# Altium schematic symbol library kmilo17pet-TI_MSP430.SchLib: 1463 symbols (part 61 of 130)
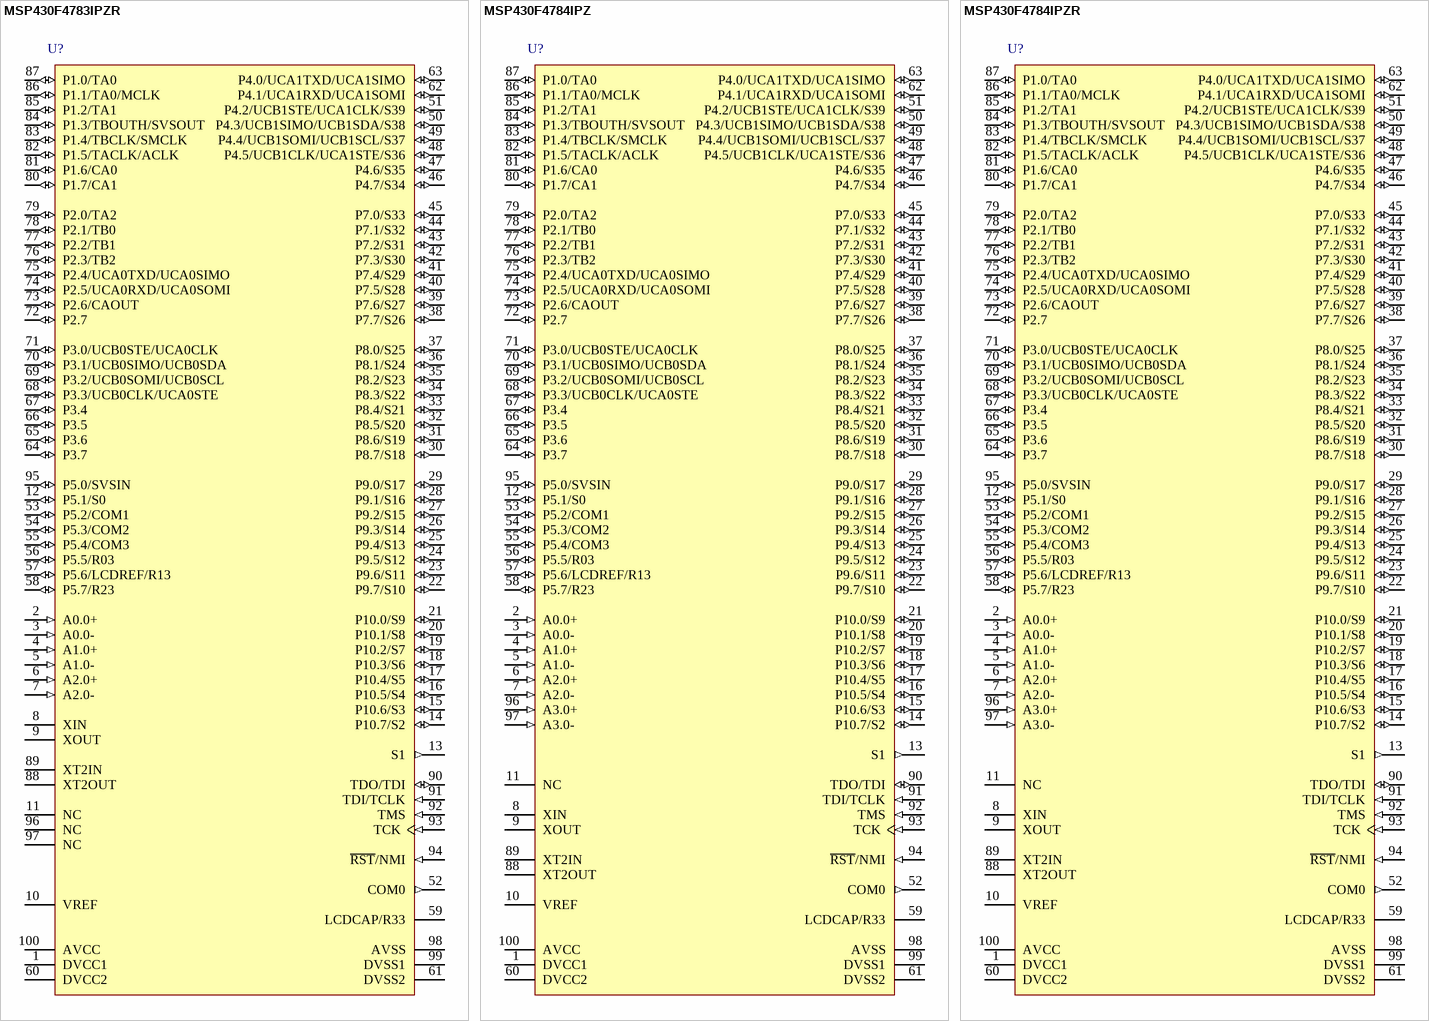
[diagram p266: symbols MSP430F4783IPZR to MSP430F4784IPZR]

## MSP430F4784IPZR
designator U?
16 MHz Mixed Signal Microcontroller with 48 KB Flash, 2048 B SRAM and 72 GPIOs, -40 to 85 degC, 100-pin QFP (PZ), Green (RoHS & no Sb/Br); Manufacturer: Texas Instruments; PartNumber: MSP430F4784IPZR; ADC: 16-bit Sigma Delta; Brown Out Reset: Yes; Flash(KB): 48; Frequency(MHz): 16; GPIO: 72; LCD Segments: 160; Multiplier: 32x32; SRAM(B): 2048; SubFamily: 4 Series with LCD; Timers - 16-bit: 2; DatasheetVersion: SLAS545C; PackageVersion: 4040149/B; PackageReference: PZ100; PackageDescription: 100-Pin Plastic Flat Pack, Body 14 x 14 mm, Pitch 0.5 mm; Supplier 1: Digi-Key; Supplier Part Number 1: 296-33435-5-ND; Supplier 2: Newark; Supplier Part Number 2: 73M3251; Supplier 3: Mouser; Supplier Part Number 3: 595-MSP430F4784IPZ; Comparators: Yes; Eco-Plan: Green (RoHS & no Sb/Br); SVS: Yes; Temp Sensor: Yes; USCI_A (UART/LIN/IrDA/SPI): 2; USCI_B (I2C & SPI): 2; Watchdog: Yes; Mounting Technology: Surface Mount; Code_JEDEC: MS-026; ComponentLink1Description: Manufacturer URL; ComponentLink1URL: http://www.ti.com/; ComponentLink2Description: Datasheet; ComponentLink2URL: http://www.ti.com/general/docs/lit/getliterature.tsp?genericPartNumber=MSP430F4784&fileType=pdf; ComponentLink3Description: Package Specification; ComponentLink3URL: http://www.ti.com/lit/ml/mtqf013a/mtqf013a.pdf
footprint TI-PZ100_N (QFP, 100-Leads, Body 14x14mm, Pitch 0.5mm, IPC Medium Density)
pins: 1 DVCC1 (power) "Digital supply voltage, positive terminal.", 2 A0.0+ (in) "SD16_A positive analog input A0.0", 3 A0.0- (in) "SD16_A negative analog input A0.0", 4 A1.0+ (in) "SD16_A positive analog input A1.0", 5 A1.0- (in) "SD16_A negative analog input A1.0", 6 A2.0+ (in) "SD16_A positive analog input A2.0", 7 A2.0- (in) "SD16_A negative analog input A2.0", 8 XIN "Input port for crystal oscillator XT1. Standard or watch crystals can be connected.", 9 XOUT "Output terminal of crystal oscillator XT1", 10 VREF "Input for an external reference voltage / Internal reference voltage output (can be used as mid-voltage)", 11 NC "Internally not connected. Can be connected to VSS.", 12 P5.1/S0 (io), 13 S1 (out) "LCD segment output 1", 14 P10.7/S2 (io), 15 P10.6/S3 (io), 16 P10.5/S4 (io), 17 P10.4/S5 (io), 18 P10.3/S6 (io), 19 P10.2/S7 (io), 20 P10.1/S8 (io), 21 P10.0/S9 (io), 22 P9.7/S10 (io), 23 P9.6/S11 (io), 24 P9.5/S12 (io), 25 P9.4/S13 (io), 26 P9.3/S14 (io), 27 P9.2/S15 (io), 28 P9.1/S16 (io), 29 P9.0/S17 (io), 30 P8.7/S18 (io), 31 P8.6/S19 (io), 32 P8.5/S20 (io), 33 P8.4/S21 (io), 34 P8.3/S22 (io), 35 P8.2/S23 (io), 36 P8.1/S24 (io), 37 P8.0/S25 (io), 38 P7.7/S26 (io), 39 P7.6/S27 (io), 40 P7.5/S28 (io), 41 P7.4/S29 (io), 42 P7.3/S30 (io), 43 P7.2/S31 (io), 44 P7.1/S32 (io), 45 P7.0/S33 (io), 46 P4.7/S34 (io), 47 P4.6/S35 (io), 48 P4.5/UCB1CLK/UCA1STE/S36 (io), 49 P4.4/UCB1SOMI/UCB1SCL/S37 (io), 50 P4.3/UCB1SIMO/UCB1SDA/S38 (io), 51 P4.2/UCB1STE/UCA1CLK/S39 (io), 52 COM0 (out) "COM0-3 are used for LCD backplanes", 53 P5.2/COM1 (io), 54 P5.3/COM2 (io), 55 P5.4/COM3 (io), 56 P5.5/R03 (io), 57 P5.6/LCDREF/R13 (io), 58 P5.7/R23 (io), 59 LCDCAP/R33, 60 DVCC2 (power) "Digital supply voltage, positive terminal.", 61 DVSS2 (power) "Digital supply voltage, negative terminal.", 62 P4.1/UCA1RXD/UCA1SOMI (io), 63 P4.0/UCA1TXD/UCA1SIMO (io), 64 P3.7 (io) "General-purpose digital I/O", 65 P3.6 (io) "General-purpose digital I/O", 66 P3.5 (io) "General-purpose digital I/O", 67 P3.4 (io) "General-purpose digital I/O", 68 P3.3/UCB0CLK/UCA0STE (io), 69 P3.2/UCB0SOMI/UCB0SCL (io), 70 P3.1/UCB0SIMO/UCB0SDA (io), 71 P3.0/UCB0STE/UCA0CLK (io), 72 P2.7 (io) "General-purpose digital I/O", 73 P2.6/CAOUT (io), 74 P2.5/UCA0RXD/UCA0SOMI (io), 75 P2.4/UCA0TXD/UCA0SIMO (io), 76 P2.3/TB2 (io), 77 P2.2/TB1 (io), 78 P2.1/TB0 (io), 79 P2.0/TA2 (io), 80 P1.7/CA1 (io), 81 P1.6/CA0 (io), 82 P1.5/TACLK/ACLK (io), 83 P1.4/TBCLK/SMCLK (io), 84 P1.3/TBOUTH/SVSOUT (io), 85 P1.2/TA1 (io), 86 P1.1/TA0/MCLK (io), 87 P1.0/TA0 (io), 88 XT2OUT "Output terminal of crystal oscillator XT2", 89 XT2IN "Input port for crystal oscillator XT2. Only standard crystals can be connected.", 90 TDO/TDI (io), 91 TDI/TCLK (in), 92 TMS (in) "Test mode select. TMS is used as an input port for device programming and test.", 93 TCK (in) "Test clock. TCK is the clock input port for device programming and test.", 94 ~{RST}/NMI (in), 95 P5.0/SVSIN (io), 96 A3.0+ (in) "SD16_A positive analog input A3.0", 97 A3.0- (in) "SD16_A negative analog input A3.0", 98 AVSS (power) "Analog supply voltage, negative terminal.", 99 DVSS1 (power) "Digital supply voltage, negative terminal.", 100 AVCC (power) "Analog supply voltage, positive terminal. Must not power up prior to DVCC1/DVCC2."

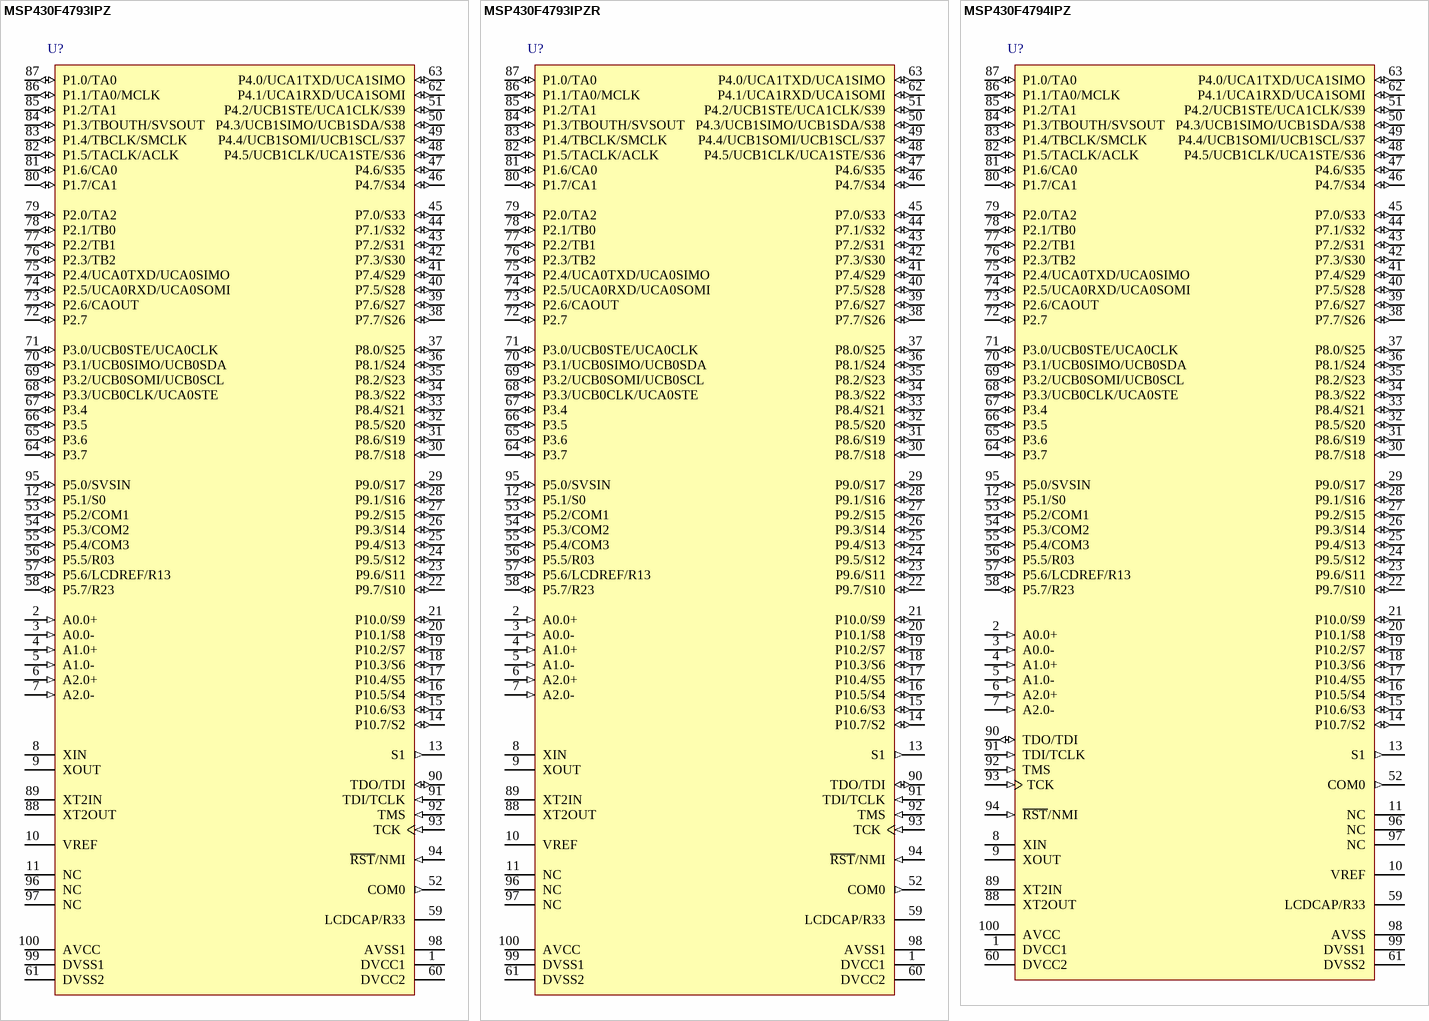
[diagram p88: symbols MSP430F4793IPZ to MSP430F4794IPZ]

## MSP430F4793IPZ
designator U?
16 MHz Mixed Signal Microcontroller with 60 KB Flash, 2560 B SRAM and 72 GPIOs, -40 to 85 degC, 100-pin QFP (PZ), Green (RoHS & no Sb/Br); Manufacturer: Texas Instruments; PartNumber: MSP430F4793IPZ; ADC: 16-bit Sigma Delta; Brown Out Reset: Yes; Flash(KB): 60; Frequency(MHz): 16; GPIO: 72; LCD Segments: 160; Multiplier: 32x32; SRAM(B): 2560; SubFamily: 4 Series with LCD; Timers - 16-bit: 2; DatasheetVersion: SLAS545C; PackageVersion: 4040149/B; PackageReference: PZ100; PackageDescription: 100-Pin Plastic Flat Pack, Body 14 x 14 mm, Pitch 0.5 mm; Supplier 1: Digi-Key; Supplier Part Number 1: 296-25382-2-ND; Supplier 2: Digi-Key; Supplier Part Number 2: 296-25382-1-ND; Supplier 3: Digi-Key; Supplier Part Number 3: 296-25382-6-ND; Supplier 4: Newark; Supplier Part Number 4: 24R9862; Supplier 5: Mouser; Supplier Part Number 5: 595-MSP430F478IPNR; Comparators: Yes; Eco-Plan: Green (RoHS & no Sb/Br); SVS: Yes; Temp Sensor: Yes; USCI_A (UART/LIN/IrDA/SPI): 2; USCI_B (I2C & SPI): 2; Watchdog: Yes; Mounting Technology: Surface Mount; Code_JEDEC: MS-026; ComponentLink1Description: Manufacturer URL; ComponentLink1URL: http://www.ti.com/; ComponentLink2Description: Datasheet; ComponentLink2URL: http://www.ti.com/general/docs/lit/getliterature.tsp?genericPartNumber=MSP430F4793&fileType=pdf; ComponentLink3Description: Package Specification; ComponentLink3URL: http://www.ti.com/lit/ml/mtqf013a/mtqf013a.pdf
footprint TI-PZ100_N (QFP, 100-Leads, Body 14x14mm, Pitch 0.5mm, IPC Medium Density)
pins: 1 DVCC1 (power) "Digital supply voltage, positive terminal.", 2 A0.0+ (in) "SD16_A positive analog input A0.0", 3 A0.0- (in) "SD16_A negative analog input A0.0", 4 A1.0+ (in) "SD16_A positive analog input A1.0", 5 A1.0- (in) "SD16_A negative analog input A1.0", 6 A2.0+ (in) "SD16_A positive analog input A2.0", 7 A2.0- (in) "SD16_A negative analog input A2.0", 8 XIN "Input port for crystal oscillator XT1. Standard or watch crystals can be connected.", 9 XOUT "Output terminal of crystal oscillator XT1", 10 VREF "Input for an external reference voltage /Internal reference voltage output (can be used as mid-voltage)", 11 NC "Internally not connected. Can be connected to VSS.", 12 P5.1/S0 (io), 13 S1 (out) "LCD segment output 1", 14 P10.7/S2 (io), 15 P10.6/S3 (io), 16 P10.5/S4 (io), 17 P10.4/S5 (io), 18 P10.3/S6 (io), 19 P10.2/S7 (io), 20 P10.1/S8 (io), 21 P10.0/S9 (io), 22 P9.7/S10 (io), 23 P9.6/S11 (io), 24 P9.5/S12 (io), 25 P9.4/S13 (io), 26 P9.3/S14 (io), 27 P9.2/S15 (io), 28 P9.1/S16 (io), 29 P9.0/S17 (io), 30 P8.7/S18 (io), 31 P8.6/S19 (io), 32 P8.5/S20 (io), 33 P8.4/S21 (io), 34 P8.3/S22 (io), 35 P8.2/S23 (io), 36 P8.1/S24 (io), 37 P8.0/S25 (io), 38 P7.7/S26 (io), 39 P7.6/S27 (io), 40 P7.5/S28 (io), 41 P7.4/S29 (io), 42 P7.3/S30 (io), 43 P7.2/S31 (io), 44 P7.1/S32 (io), 45 P7.0/S33 (io), 46 P4.7/S34 (io), 47 P4.6/S35 (io), 48 P4.5/UCB1CLK/UCA1STE/S36 (io), 49 P4.4/UCB1SOMI/UCB1SCL/S37 (io), 50 P4.3/UCB1SIMO/UCB1SDA/S38 (io), 51 P4.2/UCB1STE/UCA1CLK/S39 (io), 52 COM0 (out) "COM0-3 are used for LCD backplanes.", 53 P5.2/COM1 (io), 54 P5.3/COM2 (io), 55 P5.4/COM3 (io), 56 P5.5/R03 (io), 57 P5.6/LCDREF/R13 (io), 58 P5.7/R23 (io), 59 LCDCAP/R33, 60 DVCC2 (power) "Digital supply voltage, positive terminal.", 61 DVSS2 (power) "Digital supply voltage, negative terminal.", 62 P4.1/UCA1RXD/UCA1SOMI (io), 63 P4.0/UCA1TXD/UCA1SIMO (io), 64 P3.7 (io) "General-purpose digital I/O", 65 P3.6 (io) "General-purpose digital I/O", 66 P3.5 (io) "General-purpose digital I/O", 67 P3.4 (io) "General-purpose digital I/O", 68 P3.3/UCB0CLK/UCA0STE (io), 69 P3.2/UCB0SOMI/UCB0SCL (io), 70 P3.1/UCB0SIMO/UCB0SDA (io), 71 P3.0/UCB0STE/UCA0CLK (io), 72 P2.7 (io) "General-purpose digital I/O", 73 P2.6/CAOUT (io), 74 P2.5/UCA0RXD/UCA0SOMI (io), 75 P2.4/UCA0TXD/UCA0SIMO (io), 76 P2.3/TB2 (io), 77 P2.2/TB1 (io), 78 P2.1/TB0 (io), 79 P2.0/TA2 (io), 80 P1.7/CA1 (io), 81 P1.6/CA0 (io), 82 P1.5/TACLK/ACLK (io), 83 P1.4/TBCLK/SMCLK (io), 84 P1.3/TBOUTH/SVSOUT (io), 85 P1.2/TA1 (io), 86 P1.1/TA0/MCLK (io), 87 P1.0/TA0 (io), 88 XT2OUT "Output terminal of crystal oscillator XT2", 89 XT2IN "Input port for crystal oscillator XT2. Only standard crystals can be connected.", 90 TDO/TDI (io), 91 TDI/TCLK (in), 92 TMS (in) "Input port for crystal oscillator XT2. Only standard crystals can be connected.", 93 TCK (in) "Test clock. TCK is the clock input port for device programming and test.", 94 ~{RST}/NMI (in), 95 P5.0/SVSIN (io), 96 NC "Internally not connected. Can be connected to VSS.", 97 NC "Internally not connected. Can be connected to VSS.", 98 AVSS1 (power) "Analog supply voltage, negative terminal.", 99 DVSS1 (power) "Digital supply voltage, negative terminal.", 100 AVCC (power) "Analog supply voltage, positive terminal. Must not power up prior to DVCC1/DVCC2."

## MSP430F4793IPZR
designator U?
16 MHz Mixed Signal Microcontroller with 60 KB Flash, 2560 B SRAM and 72 GPIOs, -40 to 85 degC, 100-pin QFP (PZ), Green (RoHS & no Sb/Br); Manufacturer: Texas Instruments; PartNumber: MSP430F4793IPZR; ADC: 16-bit Sigma Delta; Brown Out Reset: Yes; Flash(KB): 60; Frequency(MHz): 16; GPIO: 72; LCD Segments: 160; Multiplier: 32x32; SRAM(B): 2560; SubFamily: 4 Series with LCD; Timers - 16-bit: 2; DatasheetVersion: SLAS545C; PackageVersion: 4040149/B; PackageReference: PZ100; PackageDescription: 100-Pin Plastic Flat Pack, Body 14 x 14 mm, Pitch 0.5 mm; Supplier 1: Digi-Key; Supplier Part Number 1: 296-33436-5-ND; Supplier 2: Farnell; Supplier Part Number 2: 1903450; Supplier 3: Newark; Supplier Part Number 3: 73M3253; Supplier 4: Mouser; Supplier Part Number 4: 595-MSP430F4793IPZ; Comparators: Yes; Eco-Plan: Green (RoHS & no Sb/Br); SVS: Yes; Temp Sensor: Yes; USCI_A (UART/LIN/IrDA/SPI): 2; USCI_B (I2C & SPI): 2; Watchdog: Yes; Mounting Technology: Surface Mount; Code_JEDEC: MS-026; ComponentLink1Description: Manufacturer URL; ComponentLink1URL: http://www.ti.com/; ComponentLink2Description: Datasheet; ComponentLink2URL: http://www.ti.com/general/docs/lit/getliterature.tsp?genericPartNumber=MSP430F4793&fileType=pdf; ComponentLink3Description: Package Specification; ComponentLink3URL: http://www.ti.com/lit/ml/mtqf013a/mtqf013a.pdf
footprint TI-PZ100_N (QFP, 100-Leads, Body 14x14mm, Pitch 0.5mm, IPC Medium Density)
pins: 1 DVCC1 (power) "Digital supply voltage, positive terminal.", 2 A0.0+ (in) "SD16_A positive analog input A0.0", 3 A0.0- (in) "SD16_A negative analog input A0.0", 4 A1.0+ (in) "SD16_A positive analog input A1.0", 5 A1.0- (in) "SD16_A negative analog input A1.0", 6 A2.0+ (in) "SD16_A positive analog input A2.0", 7 A2.0- (in) "SD16_A negative analog input A2.0", 8 XIN "Input port for crystal oscillator XT1. Standard or watch crystals can be connected.", 9 XOUT "Output terminal of crystal oscillator XT1", 10 VREF "Input for an external reference voltage /Internal reference voltage output (can be used as mid-voltage)", 11 NC "Internally not connected. Can be connected to VSS.", 12 P5.1/S0 (io), 13 S1 (out) "LCD segment output 1", 14 P10.7/S2 (io), 15 P10.6/S3 (io), 16 P10.5/S4 (io), 17 P10.4/S5 (io), 18 P10.3/S6 (io), 19 P10.2/S7 (io), 20 P10.1/S8 (io), 21 P10.0/S9 (io), 22 P9.7/S10 (io), 23 P9.6/S11 (io), 24 P9.5/S12 (io), 25 P9.4/S13 (io), 26 P9.3/S14 (io), 27 P9.2/S15 (io), 28 P9.1/S16 (io), 29 P9.0/S17 (io), 30 P8.7/S18 (io), 31 P8.6/S19 (io), 32 P8.5/S20 (io), 33 P8.4/S21 (io), 34 P8.3/S22 (io), 35 P8.2/S23 (io), 36 P8.1/S24 (io), 37 P8.0/S25 (io), 38 P7.7/S26 (io), 39 P7.6/S27 (io), 40 P7.5/S28 (io), 41 P7.4/S29 (io), 42 P7.3/S30 (io), 43 P7.2/S31 (io), 44 P7.1/S32 (io), 45 P7.0/S33 (io), 46 P4.7/S34 (io), 47 P4.6/S35 (io), 48 P4.5/UCB1CLK/UCA1STE/S36 (io), 49 P4.4/UCB1SOMI/UCB1SCL/S37 (io), 50 P4.3/UCB1SIMO/UCB1SDA/S38 (io), 51 P4.2/UCB1STE/UCA1CLK/S39 (io), 52 COM0 (out) "COM0-3 are used for LCD backplanes.", 53 P5.2/COM1 (io), 54 P5.3/COM2 (io), 55 P5.4/COM3 (io), 56 P5.5/R03 (io), 57 P5.6/LCDREF/R13 (io), 58 P5.7/R23 (io), 59 LCDCAP/R33, 60 DVCC2 (power) "Digital supply voltage, positive terminal.", 61 DVSS2 (power) "Digital supply voltage, negative terminal.", 62 P4.1/UCA1RXD/UCA1SOMI (io), 63 P4.0/UCA1TXD/UCA1SIMO (io), 64 P3.7 (io) "General-purpose digital I/O", 65 P3.6 (io) "General-purpose digital I/O", 66 P3.5 (io) "General-purpose digital I/O", 67 P3.4 (io) "General-purpose digital I/O", 68 P3.3/UCB0CLK/UCA0STE (io), 69 P3.2/UCB0SOMI/UCB0SCL (io), 70 P3.1/UCB0SIMO/UCB0SDA (io), 71 P3.0/UCB0STE/UCA0CLK (io), 72 P2.7 (io) "General-purpose digital I/O", 73 P2.6/CAOUT (io), 74 P2.5/UCA0RXD/UCA0SOMI (io), 75 P2.4/UCA0TXD/UCA0SIMO (io), 76 P2.3/TB2 (io), 77 P2.2/TB1 (io), 78 P2.1/TB0 (io), 79 P2.0/TA2 (io), 80 P1.7/CA1 (io), 81 P1.6/CA0 (io), 82 P1.5/TACLK/ACLK (io), 83 P1.4/TBCLK/SMCLK (io), 84 P1.3/TBOUTH/SVSOUT (io), 85 P1.2/TA1 (io), 86 P1.1/TA0/MCLK (io), 87 P1.0/TA0 (io), 88 XT2OUT "Output terminal of crystal oscillator XT2", 89 XT2IN "Input port for crystal oscillator XT2. Only standard crystals can be connected.", 90 TDO/TDI (io), 91 TDI/TCLK (in), 92 TMS (in) "Input port for crystal oscillator XT2. Only standard crystals can be connected.", 93 TCK (in) "Test clock. TCK is the clock input port for device programming and test.", 94 ~{RST}/NMI (in), 95 P5.0/SVSIN (io), 96 NC "Internally not connected. Can be connected to VSS.", 97 NC "Internally not connected. Can be connected to VSS.", 98 AVSS1 (power) "Analog supply voltage, negative terminal.", 99 DVSS1 (power) "Digital supply voltage, negative terminal.", 100 AVCC (power) "Analog supply voltage, positive terminal. Must not power up prior to DVCC1/DVCC2."

## MSP430F4794IPZ
designator U?
16 MHz Mixed Signal Microcontroller with 60 KB Flash, 2560 B SRAM and 72 GPIOs, -40 to 85 degC, 100-pin QFP (PZ), Green (RoHS & no Sb/Br); Manufacturer: Texas Instruments; PartNumber: MSP430F4794IPZ; ADC: 16-bit Sigma Delta; Brown Out Reset: Yes; Flash(KB): 60; Frequency(MHz): 16; GPIO: 72; LCD Segments: 160; Multiplier: 32x32; SRAM(B): 2560; SubFamily: 4 Series with LCD; Timers - 16-bit: 2; DatasheetVersion: SLAS545C; PackageVersion: 4040149/B; PackageReference: PZ100; PackageDescription: 100-Pin Plastic Flat Pack, Body 14 x 14 mm, Pitch 0.5 mm; Supplier 1: Digi-Key; Supplier Part Number 1: 296-24721-2-ND; Supplier 2: Digi-Key; Supplier Part Number 2: 296-24721-1-ND; Supplier 3: Digi-Key; Supplier Part Number 3: 296-24721-6-ND; Supplier 4: Mouser; Supplier Part Number 4: 595-MSP430F4793IPZR; Comparators: Yes; Eco-Plan: Green (RoHS & no Sb/Br); SVS: Yes; Temp Sensor: Yes; USCI_A (UART/LIN/IrDA/SPI): 2; USCI_B (I2C & SPI): 2; Watchdog: Yes; Mounting Technology: Surface Mount; Code_JEDEC: MS-026; ComponentLink1Description: Manufacturer URL; ComponentLink1URL: http://www.ti.com/; ComponentLink2Description: Datasheet; ComponentLink2URL: http://www.ti.com/general/docs/lit/getliterature.tsp?genericPartNumber=MSP430F4794&fileType=pdf; ComponentLink3Description: Package Specification; ComponentLink3URL: http://www.ti.com/lit/ml/mtqf013a/mtqf013a.pdf
footprint TI-PZ100_N (QFP, 100-Leads, Body 14x14mm, Pitch 0.5mm, IPC Medium Density)
pins: 1 DVCC1 (power) "Digital supply voltage, positive terminal.", 2 A0.0+ (in) "SD16_A positive analog input A0.0", 3 A0.0- (in) "SD16_A negative analog input A0.0", 4 A1.0+ (in) "SD16_A positive analog input A1.0", 5 A1.0- (in) "SD16_A negative analog input A1.0", 6 A2.0+ (in) "SD16_A positive analog input A2.0", 7 A2.0- (in) "SD16_A negative analog input A2.0", 8 XIN "Input port for crystal oscillator XT1. Standard or watch crystals can be connected.", 9 XOUT "Output terminal of crystal oscillator XT1", 10 VREF "Input for an external reference voltage /Internal reference voltage output (can be used as mid-voltage)", 11 NC "Internally not connected. Can be connected to VSS.", 12 P5.1/S0 (io), 13 S1 (out) "LCD segment output 1", 14 P10.7/S2 (io), 15 P10.6/S3 (io), 16 P10.5/S4 (io), 17 P10.4/S5 (io), 18 P10.3/S6 (io), 19 P10.2/S7 (io), 20 P10.1/S8 (io), 21 P10.0/S9 (io), 22 P9.7/S10 (io), 23 P9.6/S11 (io), 24 P9.5/S12 (io), 25 P9.4/S13 (io), 26 P9.3/S14 (io), 27 P9.2/S15 (io), 28 P9.1/S16 (io), 29 P9.0/S17 (io), 30 P8.7/S18 (io), 31 P8.6/S19 (io), 32 P8.5/S20 (io), 33 P8.4/S21 (io), 34 P8.3/S22 (io), 35 P8.2/S23 (io), 36 P8.1/S24 (io), 37 P8.0/S25 (io), 38 P7.7/S26 (io), 39 P7.6/S27 (io), 40 P7.5/S28 (io), 41 P7.4/S29 (io), 42 P7.3/S30 (io), 43 P7.2/S31 (io), 44 P7.1/S32 (io), 45 P7.0/S33 (io), 46 P4.7/S34 (io), 47 P4.6/S35 (io), 48 P4.5/UCB1CLK/UCA1STE/S36 (io), 49 P4.4/UCB1SOMI/UCB1SCL/S37 (io), 50 P4.3/UCB1SIMO/UCB1SDA/S38 (io), 51 P4.2/UCB1STE/UCA1CLK/S39 (io), 52 COM0 (out) "COM0-3 are used for LCD backplanes.", 53 P5.2/COM1 (io), 54 P5.3/COM2 (io), 55 P5.4/COM3 (io), 56 P5.5/R03 (io), 57 P5.6/LCDREF/R13 (io), 58 P5.7/R23 (io), 59 LCDCAP/R33, 60 DVCC2 (power) "Digital supply voltage, positive terminal.", 61 DVSS2 (power) "Digital supply voltage, negative terminal.", 62 P4.1/UCA1RXD/UCA1SOMI (io), 63 P4.0/UCA1TXD/UCA1SIMO (io), 64 P3.7 (io) "General-purpose digital I/O", 65 P3.6 (io) "General-purpose digital I/O", 66 P3.5 (io) "General-purpose digital I/O", 67 P3.4 (io) "General-purpose digital I/O", 68 P3.3/UCB0CLK/UCA0STE (io), 69 P3.2/UCB0SOMI/UCB0SCL (io), 70 P3.1/UCB0SIMO/UCB0SDA (io), 71 P3.0/UCB0STE/UCA0CLK (io), 72 P2.7 (io) "General-purpose digital I/O", 73 P2.6/CAOUT (io), 74 P2.5/UCA0RXD/UCA0SOMI (io), 75 P2.4/UCA0TXD/UCA0SIMO (io), 76 P2.3/TB2 (io), 77 P2.2/TB1 (io), 78 P2.1/TB0 (io), 79 P2.0/TA2 (io), 80 P1.7/CA1 (io), 81 P1.6/CA0 (io), 82 P1.5/TACLK/ACLK (io), 83 P1.4/TBCLK/SMCLK (io), 84 P1.3/TBOUTH/SVSOUT (io), 85 P1.2/TA1 (io), 86 P1.1/TA0/MCLK (io), 87 P1.0/TA0 (io), 88 XT2OUT "Output terminal of crystal oscillator XT2", 89 XT2IN "Input port for crystal oscillator XT2. Only standard crystals can be connected.", 90 TDO/TDI (io), 91 TDI/TCLK (in), 92 TMS (in) "Input port for crystal oscillator XT2. Only standard crystals can be connected.", 93 TCK (in) "Test clock. TCK is the clock input port for device programming and test.", 94 ~{RST}/NMI (in), 95 P5.0/SVSIN (io), 96 NC "Internally not connected. Can be connected to VSS.", 97 NC "Internally not connected. Can be connected to VSS.", 98 AVSS (power) "Analog supply voltage, negative terminal.", 99 DVSS1 (power) "Digital supply voltage, negative terminal.", 100 AVCC (power) "Analog supply voltage, positive terminal. Must not power up prior to DVCC1/DVCC2."

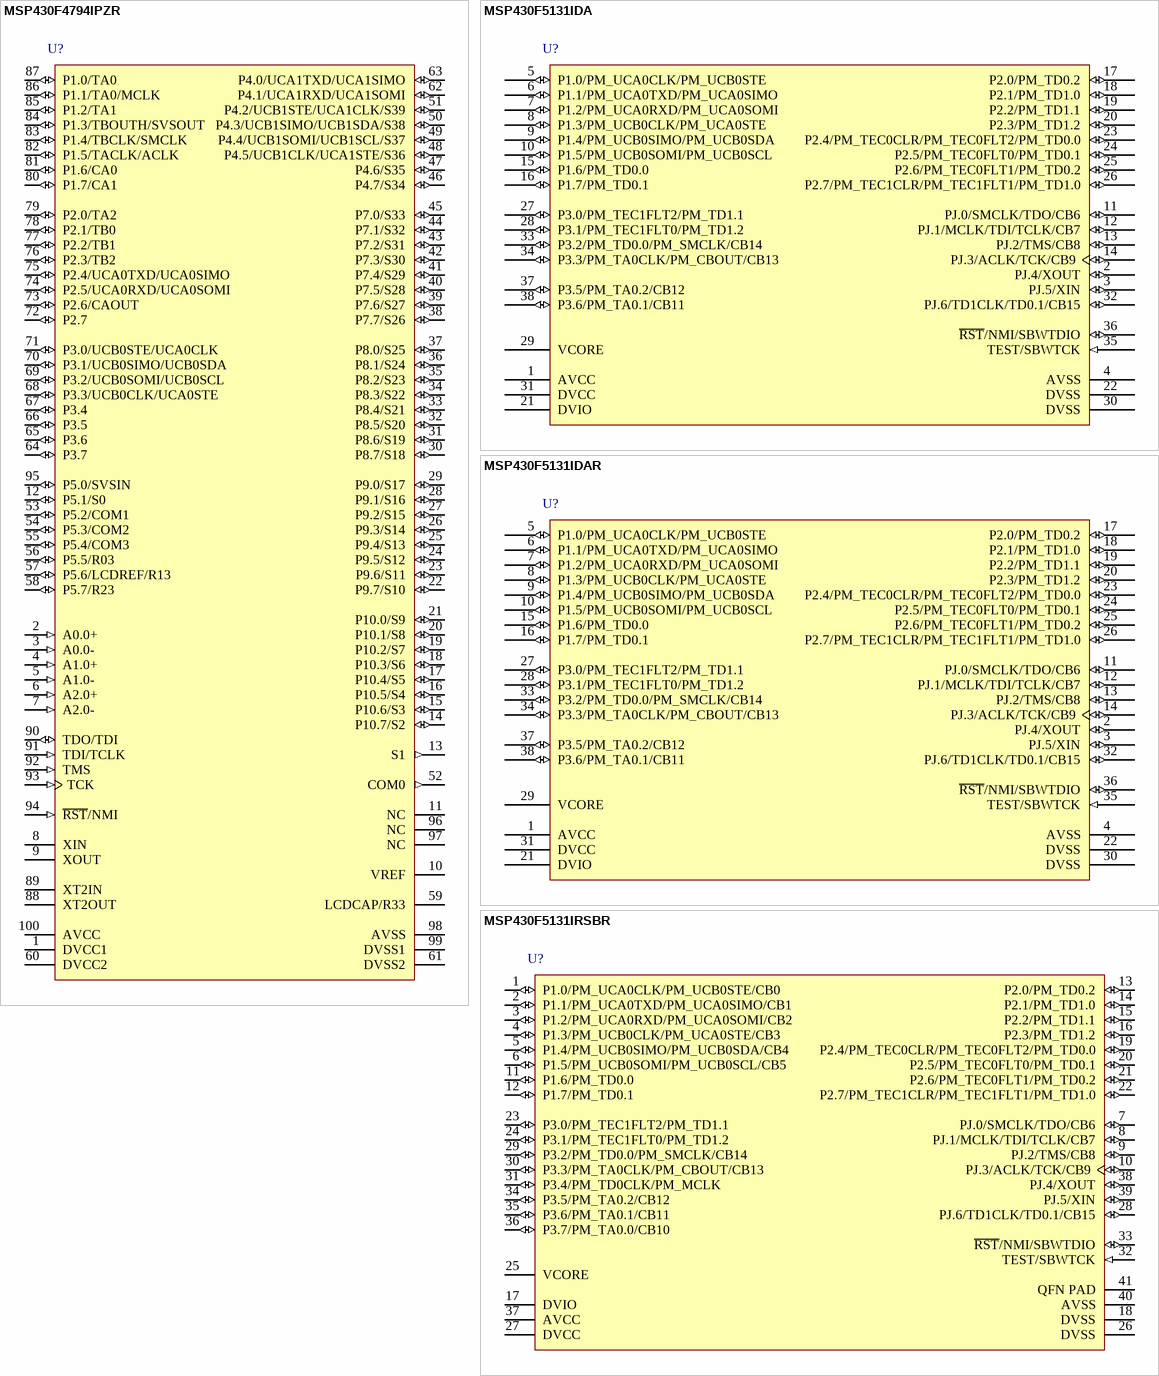
[diagram p89: symbols MSP430F4794IPZR to MSP430F5131IRSBR]

## MSP430F4794IPZR
designator U?
16 MHz Mixed Signal Microcontroller with 60 KB Flash, 2560 B SRAM and 72 GPIOs, -40 to 85 degC, 100-pin QFP (PZ), Green (RoHS & no Sb/Br); Manufacturer: Texas Instruments; PartNumber: MSP430F4794IPZR; ADC: 16-bit Sigma Delta; Brown Out Reset: Yes; Flash(KB): 60; Frequency(MHz): 16; GPIO: 72; LCD Segments: 160; Multiplier: 32x32; SRAM(B): 2560; SubFamily: 4 Series with LCD; Timers - 16-bit: 2; DatasheetVersion: SLAS545C; PackageVersion: 4040149/B; PackageReference: PZ100; PackageDescription: 100-Pin Plastic Flat Pack, Body 14 x 14 mm, Pitch 0.5 mm; Supplier 1: Digi-Key; Supplier Part Number 1: 296-33437-5-ND; Supplier 2: Newark; Supplier Part Number 2: 73M3255; Supplier 3: Mouser; Supplier Part Number 3: 595-MSP430F4794IPZ; Comparators: Yes; Eco-Plan: Green (RoHS & no Sb/Br); SVS: Yes; Temp Sensor: Yes; USCI_A (UART/LIN/IrDA/SPI): 2; USCI_B (I2C & SPI): 2; Watchdog: Yes; Mounting Technology: Surface Mount; Code_JEDEC: MS-026; ComponentLink1Description: Manufacturer URL; ComponentLink1URL: http://www.ti.com/; ComponentLink2Description: Datasheet; ComponentLink2URL: http://www.ti.com/general/docs/lit/getliterature.tsp?genericPartNumber=MSP430F4794&fileType=pdf; ComponentLink3Description: Package Specification; ComponentLink3URL: http://www.ti.com/lit/ml/mtqf013a/mtqf013a.pdf
footprint TI-PZ100_N (QFP, 100-Leads, Body 14x14mm, Pitch 0.5mm, IPC Medium Density)
pins: 1 DVCC1 (power) "Digital supply voltage, positive terminal.", 2 A0.0+ (in) "SD16_A positive analog input A0.0", 3 A0.0- (in) "SD16_A negative analog input A0.0", 4 A1.0+ (in) "SD16_A positive analog input A1.0", 5 A1.0- (in) "SD16_A negative analog input A1.0", 6 A2.0+ (in) "SD16_A positive analog input A2.0", 7 A2.0- (in) "SD16_A negative analog input A2.0", 8 XIN "Input port for crystal oscillator XT1. Standard or watch crystals can be connected.", 9 XOUT "Output terminal of crystal oscillator XT1", 10 VREF "Input for an external reference voltage /Internal reference voltage output (can be used as mid-voltage)", 11 NC "Internally not connected. Can be connected to VSS.", 12 P5.1/S0 (io), 13 S1 (out) "LCD segment output 1", 14 P10.7/S2 (io), 15 P10.6/S3 (io), 16 P10.5/S4 (io), 17 P10.4/S5 (io), 18 P10.3/S6 (io), 19 P10.2/S7 (io), 20 P10.1/S8 (io), 21 P10.0/S9 (io), 22 P9.7/S10 (io), 23 P9.6/S11 (io), 24 P9.5/S12 (io), 25 P9.4/S13 (io), 26 P9.3/S14 (io), 27 P9.2/S15 (io), 28 P9.1/S16 (io), 29 P9.0/S17 (io), 30 P8.7/S18 (io), 31 P8.6/S19 (io), 32 P8.5/S20 (io), 33 P8.4/S21 (io), 34 P8.3/S22 (io), 35 P8.2/S23 (io), 36 P8.1/S24 (io), 37 P8.0/S25 (io), 38 P7.7/S26 (io), 39 P7.6/S27 (io), 40 P7.5/S28 (io), 41 P7.4/S29 (io), 42 P7.3/S30 (io), 43 P7.2/S31 (io), 44 P7.1/S32 (io), 45 P7.0/S33 (io), 46 P4.7/S34 (io), 47 P4.6/S35 (io), 48 P4.5/UCB1CLK/UCA1STE/S36 (io), 49 P4.4/UCB1SOMI/UCB1SCL/S37 (io), 50 P4.3/UCB1SIMO/UCB1SDA/S38 (io), 51 P4.2/UCB1STE/UCA1CLK/S39 (io), 52 COM0 (out) "COM0-3 are used for LCD backplanes.", 53 P5.2/COM1 (io), 54 P5.3/COM2 (io), 55 P5.4/COM3 (io), 56 P5.5/R03 (io), 57 P5.6/LCDREF/R13 (io), 58 P5.7/R23 (io), 59 LCDCAP/R33, 60 DVCC2 (power) "Digital supply voltage, positive terminal.", 61 DVSS2 (power) "Digital supply voltage, negative terminal.", 62 P4.1/UCA1RXD/UCA1SOMI (io), 63 P4.0/UCA1TXD/UCA1SIMO (io), 64 P3.7 (io) "General-purpose digital I/O", 65 P3.6 (io) "General-purpose digital I/O", 66 P3.5 (io) "General-purpose digital I/O", 67 P3.4 (io) "General-purpose digital I/O", 68 P3.3/UCB0CLK/UCA0STE (io), 69 P3.2/UCB0SOMI/UCB0SCL (io), 70 P3.1/UCB0SIMO/UCB0SDA (io), 71 P3.0/UCB0STE/UCA0CLK (io), 72 P2.7 (io) "General-purpose digital I/O", 73 P2.6/CAOUT (io), 74 P2.5/UCA0RXD/UCA0SOMI (io), 75 P2.4/UCA0TXD/UCA0SIMO (io), 76 P2.3/TB2 (io), 77 P2.2/TB1 (io), 78 P2.1/TB0 (io), 79 P2.0/TA2 (io), 80 P1.7/CA1 (io), 81 P1.6/CA0 (io), 82 P1.5/TACLK/ACLK (io), 83 P1.4/TBCLK/SMCLK (io), 84 P1.3/TBOUTH/SVSOUT (io), 85 P1.2/TA1 (io), 86 P1.1/TA0/MCLK (io), 87 P1.0/TA0 (io), 88 XT2OUT "Output terminal of crystal oscillator XT2", 89 XT2IN "Input port for crystal oscillator XT2. Only standard crystals can be connected.", 90 TDO/TDI (io), 91 TDI/TCLK (in), 92 TMS (in) "Input port for crystal oscillator XT2. Only standard crystals can be connected.", 93 TCK (in) "Test clock. TCK is the clock input port for device programming and test.", 94 ~{RST}/NMI (in), 95 P5.0/SVSIN (io), 96 NC "Internally not connected. Can be connected to VSS.", 97 NC "Internally not connected. Can be connected to VSS.", 98 AVSS (power) "Analog supply voltage, negative terminal.", 99 DVSS1 (power) "Digital supply voltage, negative terminal.", 100 AVCC (power) "Analog supply voltage, positive terminal. Must not power up prior to DVCC1/DVCC2."

## MSP430F5131IDA
designator U?
25 MHz Mixed Signal Microcontroller with 8 KB Flash, 1024 B SRAM and 29 GPIOs, -40 to 85 degC, 38-pin SOP (DA), Green (RoHS & no Sb/Br); Manufacturer: Texas Instruments; PartNumber: MSP430F5131IDA; Comparators: Yes; DMA: 3; Flash(KB): 8; Frequency(MHz): 25; GPIO: 29; Multiplier: 32x32; SRAM(B): 1024; SubFamily: 5 Series; USCI_A (UART/LIN/IrDA/SPI): 1; DatasheetVersion: SLAS619G; PackageVersion: 4040066/F; PackageReference: DA38; PackageDescription: 38-Pin Plastic Small-Outline Package, Body 6.10 x 12.50 mm, Pitch 0.65 mm; Supplier 1: Digi-Key; Supplier Part Number 1: 296-25384-2-ND; Supplier 2: Digi-Key; Supplier Part Number 2: 296-25384-1-ND; Supplier 3: Digi-Key; Supplier Part Number 3: 296-25384-6-ND; Supplier 4: Newark; Supplier Part Number 4: 24R9866; Supplier 5: Mouser; Supplier Part Number 5: 595-MSP430F479IPNR; Eco-Plan: Green (RoHS & no Sb/Br); SVS: Yes; Timers - 16-bit: 3; USCI_B (I2C & SPI): 1; Watchdog: Yes; Mounting Technology: Surface Mount; Code_JEDEC: MO-153; ComponentLink1Description: Manufacturer URL; ComponentLink1URL: http://www.ti.com/; ComponentLink2Description: Datasheet; ComponentLink2URL: http://www.ti.com/general/docs/lit/getliterature.tsp?genericPartNumber=MSP430F5131&fileType=pdf; ComponentLink3Description: Package Specification; ComponentLink3URL: http://www.ti.com/lit/ml/mtss002e/mtss002e.pdf
footprint TI-DA38_N (SOP, 38-Leads, Body 12.5x6.1mm, Pitch 0.65mm, IPC Medium Density)
pins: 1 AVCC (power) "Analog power supply", 2 PJ.4/XOUT (io), 3 PJ.5/XIN (io), 4 AVSS (power) "Analog ground supply", 5 P1.0/PM_UCA0CLK/PM_UCB0STE (io), 6 P1.1/PM_UCA0TXD/PM_UCA0SIMO (io), 7 P1.2/PM_UCA0RXD/PM_UCA0SOMI (io), 8 P1.3/PM_UCB0CLK/PM_UCA0STE (io), 9 P1.4/PM_UCB0SIMO/PM_UCB0SDA (io), 10 P1.5/PM_UCB0SOMI/PM_UCB0SCL (io), 11 PJ.0/SMCLK/TDO/CB6 (io), 12 PJ.1/MCLK/TDI/TCLK/CB7 (io), 13 PJ.2/TMS/CB8 (io), 14 PJ.3/ACLK/TCK/CB9 (io), 15 P1.6/PM_TD0.0 (io), 16 P1.7/PM_TD0.1 (io), 17 P2.0/PM_TD0.2 (io), 18 P2.1/PM_TD1.0 (io), 19 P2.2/PM_TD1.1 (io), 20 P2.3/PM_TD1.2 (io), 21 DVIO (power) "5V tolerant digital I/O power supply", 22 DVSS (power) "Digital ground supply", 23 P2.4/PM_TEC0CLR/PM_TEC0FLT2/PM_TD0.0 (io), 24 P2.5/PM_TEC0FLT0/PM_TD0.1 (io), 25 P2.6/PM_TEC0FLT1/PM_TD0.2 (io), 26 P2.7/PM_TEC1CLR/PM_TEC1FLT1/PM_TD1.0 (io), 27 P3.0/PM_TEC1FLT2/PM_TD1.1 (io), 28 P3.1/PM_TEC1FLT0/PM_TD1.2 (io), 29 VCORE "Regulated core power supply", 30 DVSS "Digital ground supply", 31 DVCC (power) "Digital power supply", 32 PJ.6/TD1CLK/TD0.1/CB15 (io), 33 P3.2/PM_TD0.0/PM_SMCLK/CB14 (io), 34 P3.3/PM_TA0CLK/PM_CBOUT/CB13 (io), 35 TEST/SBWTCK (in), 36 ~{RST}/NMI/SBWTDIO (io), 37 P3.5/PM_TA0.2/CB12 (io), 38 P3.6/PM_TA0.1/CB11 (io)

## MSP430F5131IDAR
designator U?
25 MHz Mixed Signal Microcontroller with 8 KB Flash, 1024 B SRAM and 29 GPIOs, -40°C to 85°C, 38-pin SOP (DA), Green (RoHS & no Sb/Br); Manufacturer: Texas Instruments; PartNumber: MSP430F5131IDAR; Comparators: Yes; DMA: 3; Flash(KB): 8; Frequency(MHz): 25; GPIO: 29; Multiplier: 32x32; SRAM(B): 1024; SubFamily: 5 Series; USCI_A (UART/LIN/IrDA/SPI): 1; DatasheetVersion: SLAS619G; PackageVersion: 4040066/F; PackageReference: DA38; PackageDescription: 38-Pin Plastic Small-Outline Package, Body 6.10 x 12.50 mm, Pitch 0.65 mm; Supplier 1: Digi-Key; Supplier Part Number 1: MSP430F5131IDA-ND; Supplier 2: Newark; Supplier Part Number 2: 61T5904; Supplier 3: Mouser; Supplier Part Number 3: 595-MSP430F5131IDA; Eco-Plan: Green (RoHS & no Sb/Br); SVS: Yes; Timers - 16-bit: 3; USCI_B (I2C & SPI): 1; Watchdog: Yes; Mounting Technology: Surface Mount; Code_JEDEC: MO-153; ComponentLink1Description: Manufacturer URL; ComponentLink1URL: http://www.ti.com/; ComponentLink2Description: Datasheet; ComponentLink2URL: http://www.ti.com/general/docs/lit/getliterature.tsp?genericPartNumber=MSP430F5131&fileType=pdf; ComponentLink3Description: Package Specification; ComponentLink3URL: http://www.ti.com/lit/ml/mtss002e/mtss002e.pdf
footprint TI-DA38_N (SOP, 38-Leads, Body 12.5x6.1mm, Pitch 0.65mm, IPC Medium Density)
pins: 1 AVCC (power) "Analog power supply", 2 PJ.4/XOUT (io), 3 PJ.5/XIN (io), 4 AVSS (power) "Analog ground supply", 5 P1.0/PM_UCA0CLK/PM_UCB0STE (io), 6 P1.1/PM_UCA0TXD/PM_UCA0SIMO (io), 7 P1.2/PM_UCA0RXD/PM_UCA0SOMI (io), 8 P1.3/PM_UCB0CLK/PM_UCA0STE (io), 9 P1.4/PM_UCB0SIMO/PM_UCB0SDA (io), 10 P1.5/PM_UCB0SOMI/PM_UCB0SCL (io), 11 PJ.0/SMCLK/TDO/CB6 (io), 12 PJ.1/MCLK/TDI/TCLK/CB7 (io), 13 PJ.2/TMS/CB8 (io), 14 PJ.3/ACLK/TCK/CB9 (io), 15 P1.6/PM_TD0.0 (io), 16 P1.7/PM_TD0.1 (io), 17 P2.0/PM_TD0.2 (io), 18 P2.1/PM_TD1.0 (io), 19 P2.2/PM_TD1.1 (io), 20 P2.3/PM_TD1.2 (io), 21 DVIO (power) "5V tolerant digital I/O power supply", 22 DVSS (power) "Digital ground supply", 23 P2.4/PM_TEC0CLR/PM_TEC0FLT2/PM_TD0.0 (io), 24 P2.5/PM_TEC0FLT0/PM_TD0.1 (io), 25 P2.6/PM_TEC0FLT1/PM_TD0.2 (io), 26 P2.7/PM_TEC1CLR/PM_TEC1FLT1/PM_TD1.0 (io), 27 P3.0/PM_TEC1FLT2/PM_TD1.1 (io), 28 P3.1/PM_TEC1FLT0/PM_TD1.2 (io), 29 VCORE "Regulated core power supply", 30 DVSS "Digital ground supply", 31 DVCC (power) "Digital power supply", 32 PJ.6/TD1CLK/TD0.1/CB15 (io), 33 P3.2/PM_TD0.0/PM_SMCLK/CB14 (io), 34 P3.3/PM_TA0CLK/PM_CBOUT/CB13 (io), 35 TEST/SBWTCK (in), 36 ~{RST}/NMI/SBWTDIO (io), 37 P3.5/PM_TA0.2/CB12 (io), 38 P3.6/PM_TA0.1/CB11 (io)

## MSP430F5131IRSBR
designator U?
25 MHz Mixed Signal Microcontroller with 8 KB Flash, 1024 B SRAM and 29 GPIOs, -40°C to 85°C, 40-pin QFN (RSB), Green (RoHS & no Sb/Br); Manufacturer: Texas Instruments; PartNumber: MSP430F5131IRSBR; Comparators: Yes; DMA: 3; Flash(KB): 8; Frequency(MHz): 25; GPIO: 29; Multiplier: 32x32; SRAM(B): 1024; SubFamily: 5 Series; USCI_A (UART/LIN/IrDA/SPI): 1; DatasheetVersion: SLAS619G; PackageVersion: 4207182/C; PackageReference: RSB40-3500X3500TP; PackageDescription: 40-Pin Plastic Flat Pack, Body 5 × 5 mm, Pitch 0.4mm; Supplier 1: Digi-Key; Supplier Part Number 1: 296-29342-2-ND; Supplier 2: Digi-Key; Supplier Part Number 2: 296-29342-1-ND; Supplier 3: Digi-Key; Supplier Part Number 3: 296-29342-6-ND; Supplier 4: Newark; Supplier Part Number 4: 61T5905; Supplier 5: Mouser; Supplier Part Number 5: 595-MSP430F5131IDAR; Eco-Plan: Green (RoHS & no Sb/Br); SVS: Yes; Timers - 16-bit: 3; USCI_B (I2C & SPI): 1; Watchdog: Yes; Mounting Technology: Surface Mount; ComponentLink1Description: Manufacturer URL; ComponentLink1URL: http://www.ti.com/; ComponentLink2Description: Datasheet; ComponentLink2URL: http://www.ti.com/general/docs/lit/getliterature.tsp?genericPartNumber=MSP430F5131&fileType=pdf; ComponentLink3Description: Package Specification; ComponentLink3URL: http://www.ti.com/lit/ml/mpqf185b/mpqf185b.pdf
footprint TI-RSB40-3500X3500TP_N (QFN, 40-Leads, Body 5x5mm, Pitch 0.4mm, Thermal Pad 3.5x3.5mm, IPC Medium Density)
pins: 1 P1.0/PM_UCA0CLK/PM_UCB0STE/CB0 (io), 2 P1.1/PM_UCA0TXD/PM_UCA0SIMO/CB1 (io), 3 P1.2/PM_UCA0RXD/PM_UCA0SOMI/CB2 (io), 4 P1.3/PM_UCB0CLK/PM_UCA0STE/CB3 (io), 5 P1.4/PM_UCB0SIMO/PM_UCB0SDA/CB4 (io), 6 P1.5/PM_UCB0SOMI/PM_UCB0SCL/CB5 (io), 7 PJ.0/SMCLK/TDO/CB6 (io), 8 PJ.1/MCLK/TDI/TCLK/CB7 (io), 9 PJ.2/TMS/CB8 (io), 10 PJ.3/ACLK/TCK/CB9 (io), 11 P1.6/PM_TD0.0 (io), 12 P1.7/PM_TD0.1 (io), 13 P2.0/PM_TD0.2 (io), 14 P2.1/PM_TD1.0 (io), 15 P2.2/PM_TD1.1 (io), 16 P2.3/PM_TD1.2 (io), 17 DVIO (power) "5V tolerant digital I/O power supply", 18 DVSS (power) "Digital ground supply", 19 P2.4/PM_TEC0CLR/PM_TEC0FLT2/PM_TD0.0 (io), 20 P2.5/PM_TEC0FLT0/PM_TD0.1 (io), 21 P2.6/PM_TEC0FLT1/PM_TD0.2 (io), 22 P2.7/PM_TEC1CLR/PM_TEC1FLT1/PM_TD1.0 (io), 23 P3.0/PM_TEC1FLT2/PM_TD1.1 (io), 24 P3.1/PM_TEC1FLT0/PM_TD1.2 (io), 25 VCORE "Regulated core power supply", 26 DVSS (power) "Digital ground supply", 27 DVCC (power) "Digital power supply", 28 PJ.6/TD1CLK/TD0.1/CB15 (io), 29 P3.2/PM_TD0.0/PM_SMCLK/CB14 (io), 30 P3.3/PM_TA0CLK/PM_CBOUT/CB13 (io), 31 P3.4/PM_TD0CLK/PM_MCLK (io), 32 TEST/SBWTCK (in), 33 ~{RST}/NMI/SBWTDIO (io), 34 P3.5/PM_TA0.2/CB12 (io), 35 P3.6/PM_TA0.1/CB11 (io), 36 P3.7/PM_TA0.0/CB10 (io), 37 AVCC (power) "Analog power supply", 38 PJ.4/XOUT (io), 39 PJ.5/XIN (io), 40 AVSS (power) "Analog ground supply", 41 QFN PAD (power) "Recommended to connect to DVSS externally"

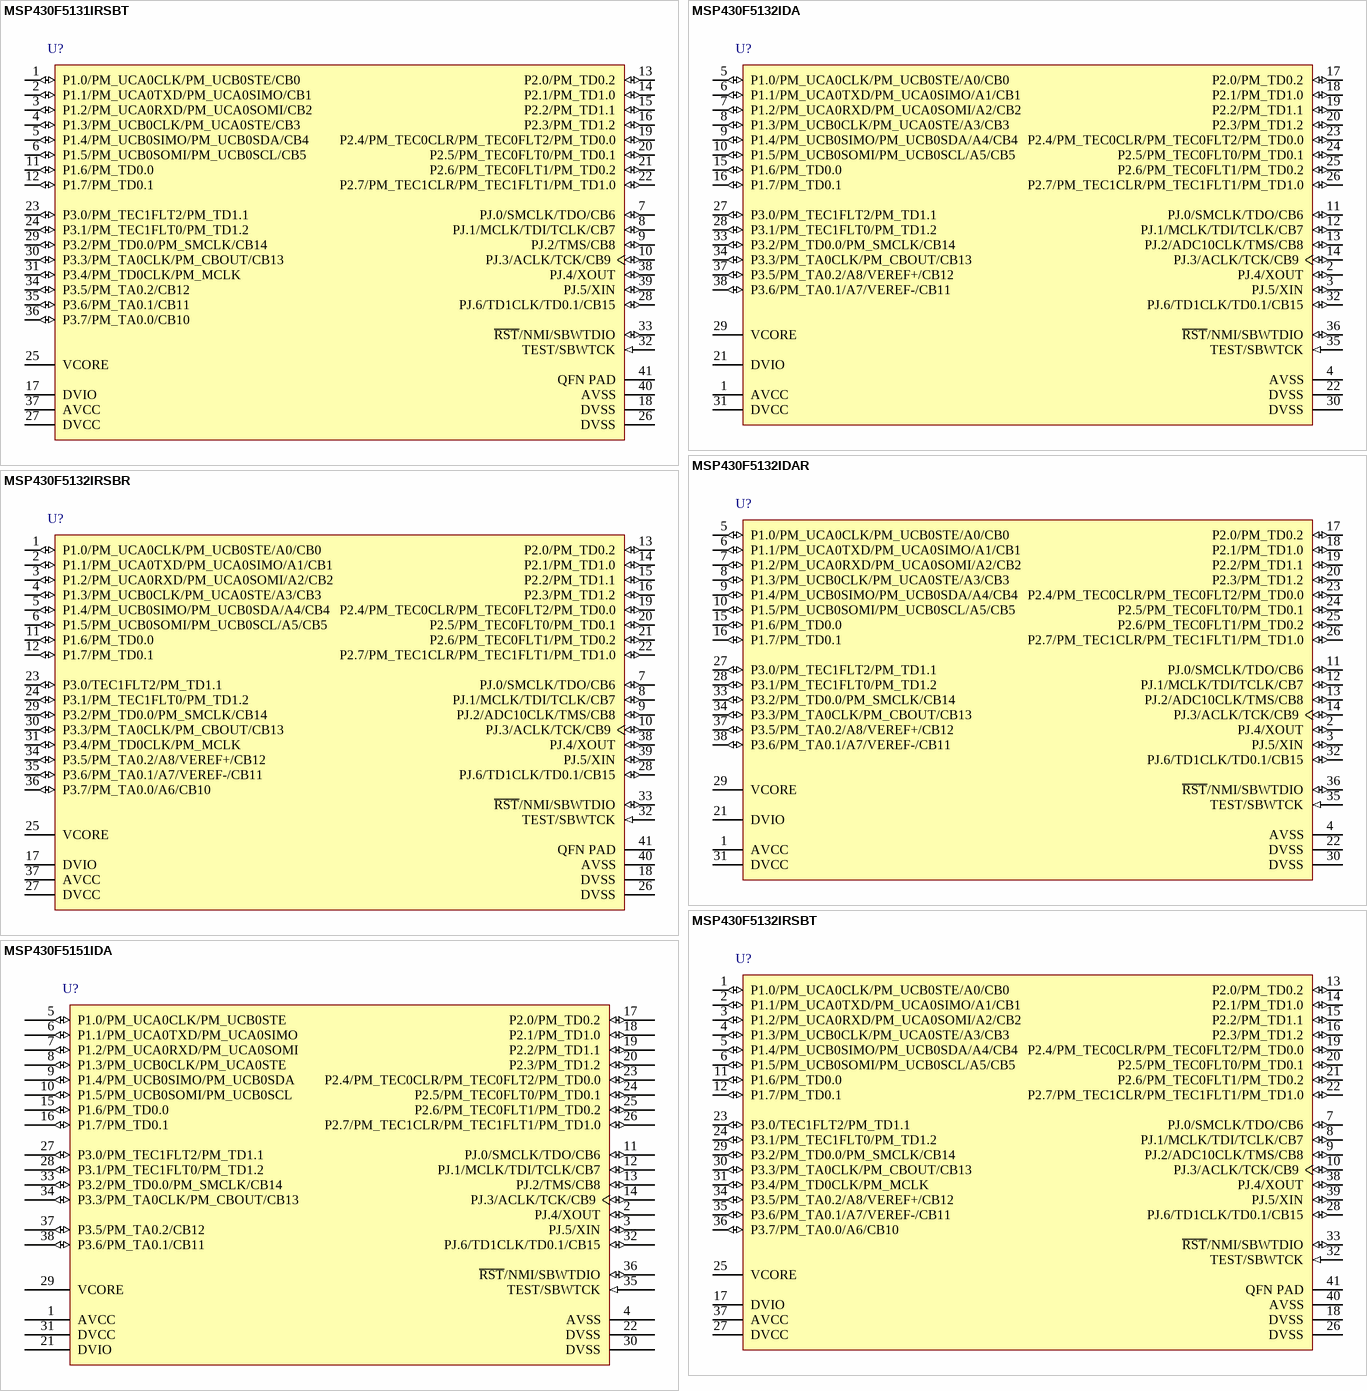
[diagram p90: symbols MSP430F5131IRSBT to MSP430F5151IDA]

## MSP430F5131IRSBT
designator U?
25 MHz Mixed Signal Microcontroller with 8 KB Flash, 1024 B SRAM and 29 GPIOs, -40°C to 85°C, 40-pin QFN (RSB), Green (RoHS & no Sb/Br); Manufacturer: Texas Instruments; PartNumber: MSP430F5131IRSBT; Comparators: Yes; DMA: 3; Flash(KB): 8; Frequency(MHz): 25; GPIO: 29; Multiplier: 32x32; SRAM(B): 1024; SubFamily: 5 Series; USCI_A (UART/LIN/IrDA/SPI): 1; DatasheetVersion: SLAS619G; PackageVersion: 4207182/C; PackageReference: RSB40-3500X3500TP; PackageDescription: 40-Pin Plastic Flat Pack, Body 5 × 5 mm, Pitch 0.4mm; Supplier 1: Digi-Key; Supplier Part Number 1: 296-29343-2-ND; Supplier 2: Digi-Key; Supplier Part Number 2: 296-29343-1-ND; Supplier 3: Digi-Key; Supplier Part Number 3: 296-29343-6-ND; Supplier 4: Mouser; Supplier Part Number 4: 595-MSP430F5131IRSBR; Eco-Plan: Green (RoHS & no Sb/Br); SVS: Yes; Timers - 16-bit: 3; USCI_B (I2C & SPI): 1; Watchdog: Yes; Mounting Technology: Surface Mount; ComponentLink1Description: Manufacturer URL; ComponentLink1URL: http://www.ti.com/; ComponentLink2Description: Datasheet; ComponentLink2URL: http://www.ti.com/general/docs/lit/getliterature.tsp?genericPartNumber=MSP430F5131&fileType=pdf; ComponentLink3Description: Package Specification; ComponentLink3URL: http://www.ti.com/lit/ml/mpqf185b/mpqf185b.pdf
footprint TI-RSB40-3500X3500TP_N (QFN, 40-Leads, Body 5x5mm, Pitch 0.4mm, Thermal Pad 3.5x3.5mm, IPC Medium Density)
pins: 1 P1.0/PM_UCA0CLK/PM_UCB0STE/CB0 (io), 2 P1.1/PM_UCA0TXD/PM_UCA0SIMO/CB1 (io), 3 P1.2/PM_UCA0RXD/PM_UCA0SOMI/CB2 (io), 4 P1.3/PM_UCB0CLK/PM_UCA0STE/CB3 (io), 5 P1.4/PM_UCB0SIMO/PM_UCB0SDA/CB4 (io), 6 P1.5/PM_UCB0SOMI/PM_UCB0SCL/CB5 (io), 7 PJ.0/SMCLK/TDO/CB6 (io), 8 PJ.1/MCLK/TDI/TCLK/CB7 (io), 9 PJ.2/TMS/CB8 (io), 10 PJ.3/ACLK/TCK/CB9 (io), 11 P1.6/PM_TD0.0 (io), 12 P1.7/PM_TD0.1 (io), 13 P2.0/PM_TD0.2 (io), 14 P2.1/PM_TD1.0 (io), 15 P2.2/PM_TD1.1 (io), 16 P2.3/PM_TD1.2 (io), 17 DVIO (power) "5V tolerant digital I/O power supply", 18 DVSS (power) "Digital ground supply", 19 P2.4/PM_TEC0CLR/PM_TEC0FLT2/PM_TD0.0 (io), 20 P2.5/PM_TEC0FLT0/PM_TD0.1 (io), 21 P2.6/PM_TEC0FLT1/PM_TD0.2 (io), 22 P2.7/PM_TEC1CLR/PM_TEC1FLT1/PM_TD1.0 (io), 23 P3.0/PM_TEC1FLT2/PM_TD1.1 (io), 24 P3.1/PM_TEC1FLT0/PM_TD1.2 (io), 25 VCORE "Regulated core power supply", 26 DVSS (power) "Digital ground supply", 27 DVCC (power) "Digital power supply", 28 PJ.6/TD1CLK/TD0.1/CB15 (io), 29 P3.2/PM_TD0.0/PM_SMCLK/CB14 (io), 30 P3.3/PM_TA0CLK/PM_CBOUT/CB13 (io), 31 P3.4/PM_TD0CLK/PM_MCLK (io), 32 TEST/SBWTCK (in), 33 ~{RST}/NMI/SBWTDIO (io), 34 P3.5/PM_TA0.2/CB12 (io), 35 P3.6/PM_TA0.1/CB11 (io), 36 P3.7/PM_TA0.0/CB10 (io), 37 AVCC (power) "Analog power supply", 38 PJ.4/XOUT (io), 39 PJ.5/XIN (io), 40 AVSS (power) "Analog ground supply", 41 QFN PAD (power) "Recommended to connect to DVSS externally"

## MSP430F5132IDA
designator U?
25 MHz Mixed Signal Microcontroller with 8 KB Flash, 1024 B SRAM and 29 GPIOs, -40 to 85 degC, 38-pin SOP (DA), Green (RoHS & no Sb/Br); Manufacturer: Texas Instruments; PartNumber: MSP430F5132IDA; ADC: 10-bit SAR; ADC Channels: 8; Brown Out Reset: Yes; DMA: 3; Frequency(MHz): 25; GPIO: 29; Multiplier: 32x32; SRAM(B): 1024; SubFamily: 5 Series; USCI_A (UART/LIN/IrDA/SPI): 1; DatasheetVersion: SLAS619G; PackageVersion: 4040066/F; PackageReference: DA38; PackageDescription: 38-Pin Plastic Small-Outline Package, Body 6.10 x 12.50 mm, Pitch 0.65 mm; Supplier 1: Digi-Key; Supplier Part Number 1: MSP430F5131IRSBT-ND; Supplier 2: Mouser; Supplier Part Number 2: 595-MSP430F5131IRSBT; Comparators: Yes; Eco-Plan: Green (RoHS & no Sb/Br); Flash(KB): 8; SVS: Yes; Temp Sensor: Yes; Timers - 16-bit: 3; USCI_B (I2C & SPI): 1; Watchdog: Yes; Mounting Technology: Surface Mount; Code_JEDEC: MO-153; ComponentLink1Description: Manufacturer URL; ComponentLink1URL: http://www.ti.com/; ComponentLink2Description: Datasheet; ComponentLink2URL: http://www.ti.com/general/docs/lit/getliterature.tsp?genericPartNumber=MSP430F5132&fileType=pdf; ComponentLink3Description: Package Specification; ComponentLink3URL: http://www.ti.com/lit/ml/mtss002e/mtss002e.pdf
footprint TI-DA38_N (SOP, 38-Leads, Body 12.5x6.1mm, Pitch 0.65mm, IPC Medium Density)
pins: 1 AVCC (power) "Analog power supply", 2 PJ.4/XOUT (io), 3 PJ.5/XIN (io), 4 AVSS (power) "Analog ground supply", 5 P1.0/PM_UCA0CLK/PM_UCB0STE/A0/CB0 (io), 6 P1.1/PM_UCA0TXD/PM_UCA0SIMO/A1/CB1 (io), 7 P1.2/PM_UCA0RXD/PM_UCA0SOMI/A2/CB2 (io), 8 P1.3/PM_UCB0CLK/PM_UCA0STE/A3/CB3 (io), 9 P1.4/PM_UCB0SIMO/PM_UCB0SDA/A4/CB4 (io), 10 P1.5/PM_UCB0SOMI/PM_UCB0SCL/A5/CB5 (io), 11 PJ.0/SMCLK/TDO/CB6 (io), 12 PJ.1/MCLK/TDI/TCLK/CB7 (io), 13 PJ.2/ADC10CLK/TMS/CB8 (io), 14 PJ.3/ACLK/TCK/CB9 (io), 15 P1.6/PM_TD0.0 (io), 16 P1.7/PM_TD0.1 (io), 17 P2.0/PM_TD0.2 (io), 18 P2.1/PM_TD1.0 (io), 19 P2.2/PM_TD1.1 (io), 20 P2.3/PM_TD1.2 (io), 21 DVIO (power) "5V tolerant digital I/O power supply", 22 DVSS (power) "Digital ground supply", 23 P2.4/PM_TEC0CLR/PM_TEC0FLT2/PM_TD0.0 (io), 24 P2.5/PM_TEC0FLT0/PM_TD0.1 (io), 25 P2.6/PM_TEC0FLT1/PM_TD0.2 (io), 26 P2.7/PM_TEC1CLR/PM_TEC1FLT1/PM_TD1.0 (io), 27 P3.0/PM_TEC1FLT2/PM_TD1.1 (io), 28 P3.1/PM_TEC1FLT0/PM_TD1.2 (io), 29 VCORE "Regulated core power supply", 30 DVSS (power) "Digital ground supply", 31 DVCC (power) "Digital power supply", 32 PJ.6/TD1CLK/TD0.1/CB15 (io), 33 P3.2/PM_TD0.0/PM_SMCLK/CB14 (io), 34 P3.3/PM_TA0CLK/PM_CBOUT/CB13 (io), 35 TEST/SBWTCK (in), 36 ~{RST}/NMI/SBWTDIO (io), 37 P3.5/PM_TA0.2/A8/VEREF+/CB12 (io), 38 P3.6/PM_TA0.1/A7/VEREF-/CB11 (io)

## MSP430F5132IDAR
designator U?
25 MHz Mixed Signal Microcontroller with 8 KB Flash, 1024 B SRAM and 29 GPIOs, -40 to 85 degC, 38-pin SOP (DA), Green (RoHS & no Sb/Br); Manufacturer: Texas Instruments; PartNumber: MSP430F5132IDAR; ADC: 10-bit SAR; ADC Channels: 8; Brown Out Reset: Yes; DMA: 3; Frequency(MHz): 25; GPIO: 29; Multiplier: 32x32; SRAM(B): 1024; SubFamily: 5 Series; USCI_A (UART/LIN/IrDA/SPI): 1; DatasheetVersion: SLAS619G; PackageVersion: 4040066/F; PackageReference: DA38; PackageDescription: 38-Pin Plastic Small-Outline Package, Body 6.10 x 12.50 mm, Pitch 0.65 mm; Supplier 1: Digi-Key; Supplier Part Number 1: MSP430F5132IDA-ND; Supplier 2: Newark; Supplier Part Number 2: 61T5908; Supplier 3: Mouser; Supplier Part Number 3: 595-MSP430F5132IDA; Comparators: Yes; Eco-Plan: Green (RoHS & no Sb/Br); Flash(KB): 8; SVS: Yes; Temp Sensor: Yes; Timers - 16-bit: 3; USCI_B (I2C & SPI): 1; Watchdog: Yes; Mounting Technology: Surface Mount; Code_JEDEC: MO-153; ComponentLink1Description: Manufacturer URL; ComponentLink1URL: http://www.ti.com/; ComponentLink2Description: Datasheet; ComponentLink2URL: http://www.ti.com/general/docs/lit/getliterature.tsp?genericPartNumber=MSP430F5132&fileType=pdf; ComponentLink3Description: Package Specification; ComponentLink3URL: http://www.ti.com/lit/ml/mtss002e/mtss002e.pdf
footprint TI-DA38_N (SOP, 38-Leads, Body 12.5x6.1mm, Pitch 0.65mm, IPC Medium Density)
pins: 1 AVCC (power) "Analog power supply", 2 PJ.4/XOUT (io), 3 PJ.5/XIN (io), 4 AVSS (power) "Analog ground supply", 5 P1.0/PM_UCA0CLK/PM_UCB0STE/A0/CB0 (io), 6 P1.1/PM_UCA0TXD/PM_UCA0SIMO/A1/CB1 (io), 7 P1.2/PM_UCA0RXD/PM_UCA0SOMI/A2/CB2 (io), 8 P1.3/PM_UCB0CLK/PM_UCA0STE/A3/CB3 (io), 9 P1.4/PM_UCB0SIMO/PM_UCB0SDA/A4/CB4 (io), 10 P1.5/PM_UCB0SOMI/PM_UCB0SCL/A5/CB5 (io), 11 PJ.0/SMCLK/TDO/CB6 (io), 12 PJ.1/MCLK/TDI/TCLK/CB7 (io), 13 PJ.2/ADC10CLK/TMS/CB8 (io), 14 PJ.3/ACLK/TCK/CB9 (io), 15 P1.6/PM_TD0.0 (io), 16 P1.7/PM_TD0.1 (io), 17 P2.0/PM_TD0.2 (io), 18 P2.1/PM_TD1.0 (io), 19 P2.2/PM_TD1.1 (io), 20 P2.3/PM_TD1.2 (io), 21 DVIO (power) "5V tolerant digital I/O power supply", 22 DVSS (power) "Digital ground supply", 23 P2.4/PM_TEC0CLR/PM_TEC0FLT2/PM_TD0.0 (io), 24 P2.5/PM_TEC0FLT0/PM_TD0.1 (io), 25 P2.6/PM_TEC0FLT1/PM_TD0.2 (io), 26 P2.7/PM_TEC1CLR/PM_TEC1FLT1/PM_TD1.0 (io), 27 P3.0/PM_TEC1FLT2/PM_TD1.1 (io), 28 P3.1/PM_TEC1FLT0/PM_TD1.2 (io), 29 VCORE "Regulated core power supply", 30 DVSS (power) "Digital ground supply", 31 DVCC (power) "Digital power supply", 32 PJ.6/TD1CLK/TD0.1/CB15 (io), 33 P3.2/PM_TD0.0/PM_SMCLK/CB14 (io), 34 P3.3/PM_TA0CLK/PM_CBOUT/CB13 (io), 35 TEST/SBWTCK (in), 36 ~{RST}/NMI/SBWTDIO (io), 37 P3.5/PM_TA0.2/A8/VEREF+/CB12 (io), 38 P3.6/PM_TA0.1/A7/VEREF-/CB11 (io)

## MSP430F5132IRSBR
designator U?
25 MHz Mixed Signal Microcontroller with 8 KB Flash, 1024 B SRAM and 29 GPIOs, -40 to 85 degC, 40-pin QFN (RSB), Green (RoHS & no Sb/Br); Manufacturer: Texas Instruments; PartNumber: MSP430F5132IRSBR; ADC: 10-bit SAR; ADC Channels: 8; Brown Out Reset: Yes; DMA: 3; Frequency(MHz): 25; GPIO: 29; Multiplier: 32x32; SRAM(B): 1024; SubFamily: 5 Series; USCI_A (UART/LIN/IrDA/SPI): 1; DatasheetVersion: SLAS619G; PackageVersion: 4207182/C; PackageReference: RSB40-3500X3500TP; PackageDescription: 40-Pin Plastic Flat Pack, Body 5 × 5 mm, Pitch 0.4mm; Supplier 1: Digi-Key; Supplier Part Number 1: 296-29344-2-ND; Supplier 2: Digi-Key; Supplier Part Number 2: 296-29344-1-ND; Supplier 3: Digi-Key; Supplier Part Number 3: 296-29344-6-ND; Supplier 4: Newark; Supplier Part Number 4: 61T5909; Supplier 5: Mouser; Supplier Part Number 5: 595-MSP430F5132IDAR; Comparators: Yes; Eco-Plan: Green (RoHS & no Sb/Br); Flash(KB): 8; SVS: Yes; Temp Sensor: Yes; Timers - 16-bit: 3; USCI_B (I2C & SPI): 1; Watchdog: Yes; Mounting Technology: Surface Mount; ComponentLink1Description: Manufacturer URL; ComponentLink1URL: http://www.ti.com/; ComponentLink2Description: Datasheet; ComponentLink2URL: http://www.ti.com/general/docs/lit/getliterature.tsp?genericPartNumber=MSP430F5132&fileType=pdf; ComponentLink3Description: Package Specification; ComponentLink3URL: http://www.ti.com/lit/ml/mpqf185b/mpqf185b.pdf
footprint TI-RSB40-3500X3500TP_N (QFN, 40-Leads, Body 5x5mm, Pitch 0.4mm, Thermal Pad 3.5x3.5mm, IPC Medium Density)
pins: 1 P1.0/PM_UCA0CLK/PM_UCB0STE/A0/CB0 (io), 2 P1.1/PM_UCA0TXD/PM_UCA0SIMO/A1/CB1 (io), 3 P1.2/PM_UCA0RXD/PM_UCA0SOMI/A2/CB2 (io), 4 P1.3/PM_UCB0CLK/PM_UCA0STE/A3/CB3 (io), 5 P1.4/PM_UCB0SIMO/PM_UCB0SDA/A4/CB4 (io), 6 P1.5/PM_UCB0SOMI/PM_UCB0SCL/A5/CB5 (io), 7 PJ.0/SMCLK/TDO/CB6 (io), 8 PJ.1/MCLK/TDI/TCLK/CB7 (io), 9 PJ.2/ADC10CLK/TMS/CB8 (io), 10 PJ.3/ACLK/TCK/CB9 (io), 11 P1.6/PM_TD0.0 (io), 12 P1.7/PM_TD0.1 (io), 13 P2.0/PM_TD0.2 (io), 14 P2.1/PM_TD1.0 (io), 15 P2.2/PM_TD1.1 (io), 16 P2.3/PM_TD1.2 (io), 17 DVIO (power) "5V tolerant digital I/O power supply", 18 DVSS (power) "Digital ground supply", 19 P2.4/PM_TEC0CLR/PM_TEC0FLT2/PM_TD0.0 (io), 20 P2.5/PM_TEC0FLT0/PM_TD0.1 (io), 21 P2.6/PM_TEC0FLT1/PM_TD0.2 (io), 22 P2.7/PM_TEC1CLR/PM_TEC1FLT1/PM_TD1.0 (io), 23 P3.0/TEC1FLT2/PM_TD1.1 (io), 24 P3.1/PM_TEC1FLT0/PM_TD1.2 (io), 25 VCORE "Regulated core power supply", 26 DVSS (power) "Digital ground supply", 27 DVCC (power) "Digital power supply", 28 PJ.6/TD1CLK/TD0.1/CB15 (io), 29 P3.2/PM_TD0.0/PM_SMCLK/CB14 (io), 30 P3.3/PM_TA0CLK/PM_CBOUT/CB13 (io), 31 P3.4/PM_TD0CLK/PM_MCLK (io), 32 TEST/SBWTCK (in), 33 ~{RST}/NMI/SBWTDIO (io), 34 P3.5/PM_TA0.2/A8/VEREF+/CB12 (io), 35 P3.6/PM_TA0.1/A7/VEREF-/CB11 (io), 36 P3.7/PM_TA0.0/A6/CB10 (io), 37 AVCC (power) "Analog power supply", 38 PJ.4/XOUT (io), 39 PJ.5/XIN (io), 40 AVSS (power) "Analog ground supply", 41 QFN PAD (power) "Recommended to connect to DVSS externally"

## MSP430F5132IRSBT
designator U?
25 MHz Mixed Signal Microcontroller with 8 KB Flash, 1024 B SRAM and 29 GPIOs, -40 to 85 degC, 40-pin QFN (RSB), Green (RoHS & no Sb/Br); Manufacturer: Texas Instruments; PartNumber: MSP430F5132IRSBT; ADC: 10-bit SAR; ADC Channels: 8; Brown Out Reset: Yes; DMA: 3; Frequency(MHz): 25; GPIO: 29; Multiplier: 32x32; SRAM(B): 1024; SubFamily: 5 Series; USCI_A (UART/LIN/IrDA/SPI): 1; DatasheetVersion: SLAS619G; PackageVersion: 4207182/C; PackageReference: RSB40-3500X3500TP; PackageDescription: 40-Pin Plastic Flat Pack, Body 5 × 5 mm, Pitch 0.4mm; Supplier 1: Digi-Key; Supplier Part Number 1: 296-29345-2-ND; Supplier 2: Digi-Key; Supplier Part Number 2: 296-29345-1-ND; Supplier 3: Digi-Key; Supplier Part Number 3: 296-29345-6-ND; Supplier 4: Newark; Supplier Part Number 4: 61T5910; Supplier 5: Mouser; Supplier Part Number 5: 595-MSP430F5132IRSBR; Comparators: Yes; Eco-Plan: Green (RoHS & no Sb/Br); Flash(KB): 8; SVS: Yes; Temp Sensor: Yes; Timers - 16-bit: 3; USCI_B (I2C & SPI): 1; Watchdog: Yes; Mounting Technology: Surface Mount; ComponentLink1Description: Manufacturer URL; ComponentLink1URL: http://www.ti.com/; ComponentLink2Description: Datasheet; ComponentLink2URL: http://www.ti.com/general/docs/lit/getliterature.tsp?genericPartNumber=MSP430F5132&fileType=pdf; ComponentLink3Description: Package Specification; ComponentLink3URL: http://www.ti.com/lit/ml/mpqf185b/mpqf185b.pdf
footprint TI-RSB40-3500X3500TP_N (QFN, 40-Leads, Body 5x5mm, Pitch 0.4mm, Thermal Pad 3.5x3.5mm, IPC Medium Density)
pins: 1 P1.0/PM_UCA0CLK/PM_UCB0STE/A0/CB0 (io), 2 P1.1/PM_UCA0TXD/PM_UCA0SIMO/A1/CB1 (io), 3 P1.2/PM_UCA0RXD/PM_UCA0SOMI/A2/CB2 (io), 4 P1.3/PM_UCB0CLK/PM_UCA0STE/A3/CB3 (io), 5 P1.4/PM_UCB0SIMO/PM_UCB0SDA/A4/CB4 (io), 6 P1.5/PM_UCB0SOMI/PM_UCB0SCL/A5/CB5 (io), 7 PJ.0/SMCLK/TDO/CB6 (io), 8 PJ.1/MCLK/TDI/TCLK/CB7 (io), 9 PJ.2/ADC10CLK/TMS/CB8 (io), 10 PJ.3/ACLK/TCK/CB9 (io), 11 P1.6/PM_TD0.0 (io), 12 P1.7/PM_TD0.1 (io), 13 P2.0/PM_TD0.2 (io), 14 P2.1/PM_TD1.0 (io), 15 P2.2/PM_TD1.1 (io), 16 P2.3/PM_TD1.2 (io), 17 DVIO (power) "5V tolerant digital I/O power supply", 18 DVSS (power) "Digital ground supply", 19 P2.4/PM_TEC0CLR/PM_TEC0FLT2/PM_TD0.0 (io), 20 P2.5/PM_TEC0FLT0/PM_TD0.1 (io), 21 P2.6/PM_TEC0FLT1/PM_TD0.2 (io), 22 P2.7/PM_TEC1CLR/PM_TEC1FLT1/PM_TD1.0 (io), 23 P3.0/TEC1FLT2/PM_TD1.1 (io), 24 P3.1/PM_TEC1FLT0/PM_TD1.2 (io), 25 VCORE "Regulated core power supply", 26 DVSS (power) "Digital ground supply", 27 DVCC (power) "Digital power supply", 28 PJ.6/TD1CLK/TD0.1/CB15 (io), 29 P3.2/PM_TD0.0/PM_SMCLK/CB14 (io), 30 P3.3/PM_TA0CLK/PM_CBOUT/CB13 (io), 31 P3.4/PM_TD0CLK/PM_MCLK (io), 32 TEST/SBWTCK (in), 33 ~{RST}/NMI/SBWTDIO (io), 34 P3.5/PM_TA0.2/A8/VEREF+/CB12 (io), 35 P3.6/PM_TA0.1/A7/VEREF-/CB11 (io), 36 P3.7/PM_TA0.0/A6/CB10 (io), 37 AVCC (power) "Analog power supply", 38 PJ.4/XOUT (io), 39 PJ.5/XIN (io), 40 AVSS (power) "Analog ground supply", 41 QFN PAD (power) "Recommended to connect to DVSS externally"

## MSP430F5151IDA
designator U?
25 MHz Mixed Signal Microcontroller with 16 KB Flash, 2048 B SRAM and 29 GPIOs, -40 to 85 degC, 38-pin SOP (DA), Green (RoHS & no Sb/Br); Manufacturer: Texas Instruments; PartNumber: MSP430F5151IDA; Brown Out Reset: Yes; DMA: 3; Flash(KB): 16; Frequency(MHz): 25; GPIO: 29; Multiplier: 32x32; SRAM(B): 2048; SubFamily: 5 Series; USCI_A (UART/LIN/IrDA/SPI): 1; DatasheetVersion: SLAS619G; PackageVersion: 4040066/F; PackageReference: DA38; PackageDescription: 38-Pin Plastic Small-Outline Package, Body 6.10 x 12.50 mm, Pitch 0.65 mm; Supplier 1: Digi-Key; Supplier Part Number 1: MSP430F5132IRSBT-ND; Supplier 2: Newark; Supplier Part Number 2: 61T5911; Supplier 3: Mouser; Supplier Part Number 3: 595-MSP430F5132IRSBT; Comparators: Yes; Eco-Plan: Green (RoHS & no Sb/Br); SVS: Yes; Timers - 16-bit: 3; USCI_B (I2C & SPI): 1; Watchdog: Yes; Mounting Technology: Surface Mount; Code_JEDEC: MO-153; ComponentLink1Description: Manufacturer URL; ComponentLink1URL: http://www.ti.com/; ComponentLink2Description: Datasheet; ComponentLink2URL: http://www.ti.com/general/docs/lit/getliterature.tsp?genericPartNumber=MSP430F5151&fileType=pdf; ComponentLink3Description: Package Specification; ComponentLink3URL: http://www.ti.com/lit/ml/mtss002e/mtss002e.pdf
footprint TI-DA38_N (SOP, 38-Leads, Body 12.5x6.1mm, Pitch 0.65mm, IPC Medium Density)
pins: 1 AVCC (power) "Analog power supply", 2 PJ.4/XOUT (io), 3 PJ.5/XIN (io), 4 AVSS (power) "Analog ground supply", 5 P1.0/PM_UCA0CLK/PM_UCB0STE (io), 6 P1.1/PM_UCA0TXD/PM_UCA0SIMO (io), 7 P1.2/PM_UCA0RXD/PM_UCA0SOMI (io), 8 P1.3/PM_UCB0CLK/PM_UCA0STE (io), 9 P1.4/PM_UCB0SIMO/PM_UCB0SDA (io), 10 P1.5/PM_UCB0SOMI/PM_UCB0SCL (io), 11 PJ.0/SMCLK/TDO/CB6 (io), 12 PJ.1/MCLK/TDI/TCLK/CB7 (io), 13 PJ.2/TMS/CB8 (io), 14 PJ.3/ACLK/TCK/CB9 (io), 15 P1.6/PM_TD0.0 (io), 16 P1.7/PM_TD0.1 (io), 17 P2.0/PM_TD0.2 (io), 18 P2.1/PM_TD1.0 (io), 19 P2.2/PM_TD1.1 (io), 20 P2.3/PM_TD1.2 (io), 21 DVIO (power) "5V tolerant digital I/O power supply", 22 DVSS (power) "Digital ground supply", 23 P2.4/PM_TEC0CLR/PM_TEC0FLT2/PM_TD0.0 (io), 24 P2.5/PM_TEC0FLT0/PM_TD0.1 (io), 25 P2.6/PM_TEC0FLT1/PM_TD0.2 (io), 26 P2.7/PM_TEC1CLR/PM_TEC1FLT1/PM_TD1.0 (io), 27 P3.0/PM_TEC1FLT2/PM_TD1.1 (io), 28 P3.1/PM_TEC1FLT0/PM_TD1.2 (io), 29 VCORE "Regulated core power supply", 30 DVSS "Digital ground supply", 31 DVCC (power) "Digital power supply", 32 PJ.6/TD1CLK/TD0.1/CB15 (io), 33 P3.2/PM_TD0.0/PM_SMCLK/CB14 (io), 34 P3.3/PM_TA0CLK/PM_CBOUT/CB13 (io), 35 TEST/SBWTCK (in), 36 ~{RST}/NMI/SBWTDIO (io), 37 P3.5/PM_TA0.2/CB12 (io), 38 P3.6/PM_TA0.1/CB11 (io)

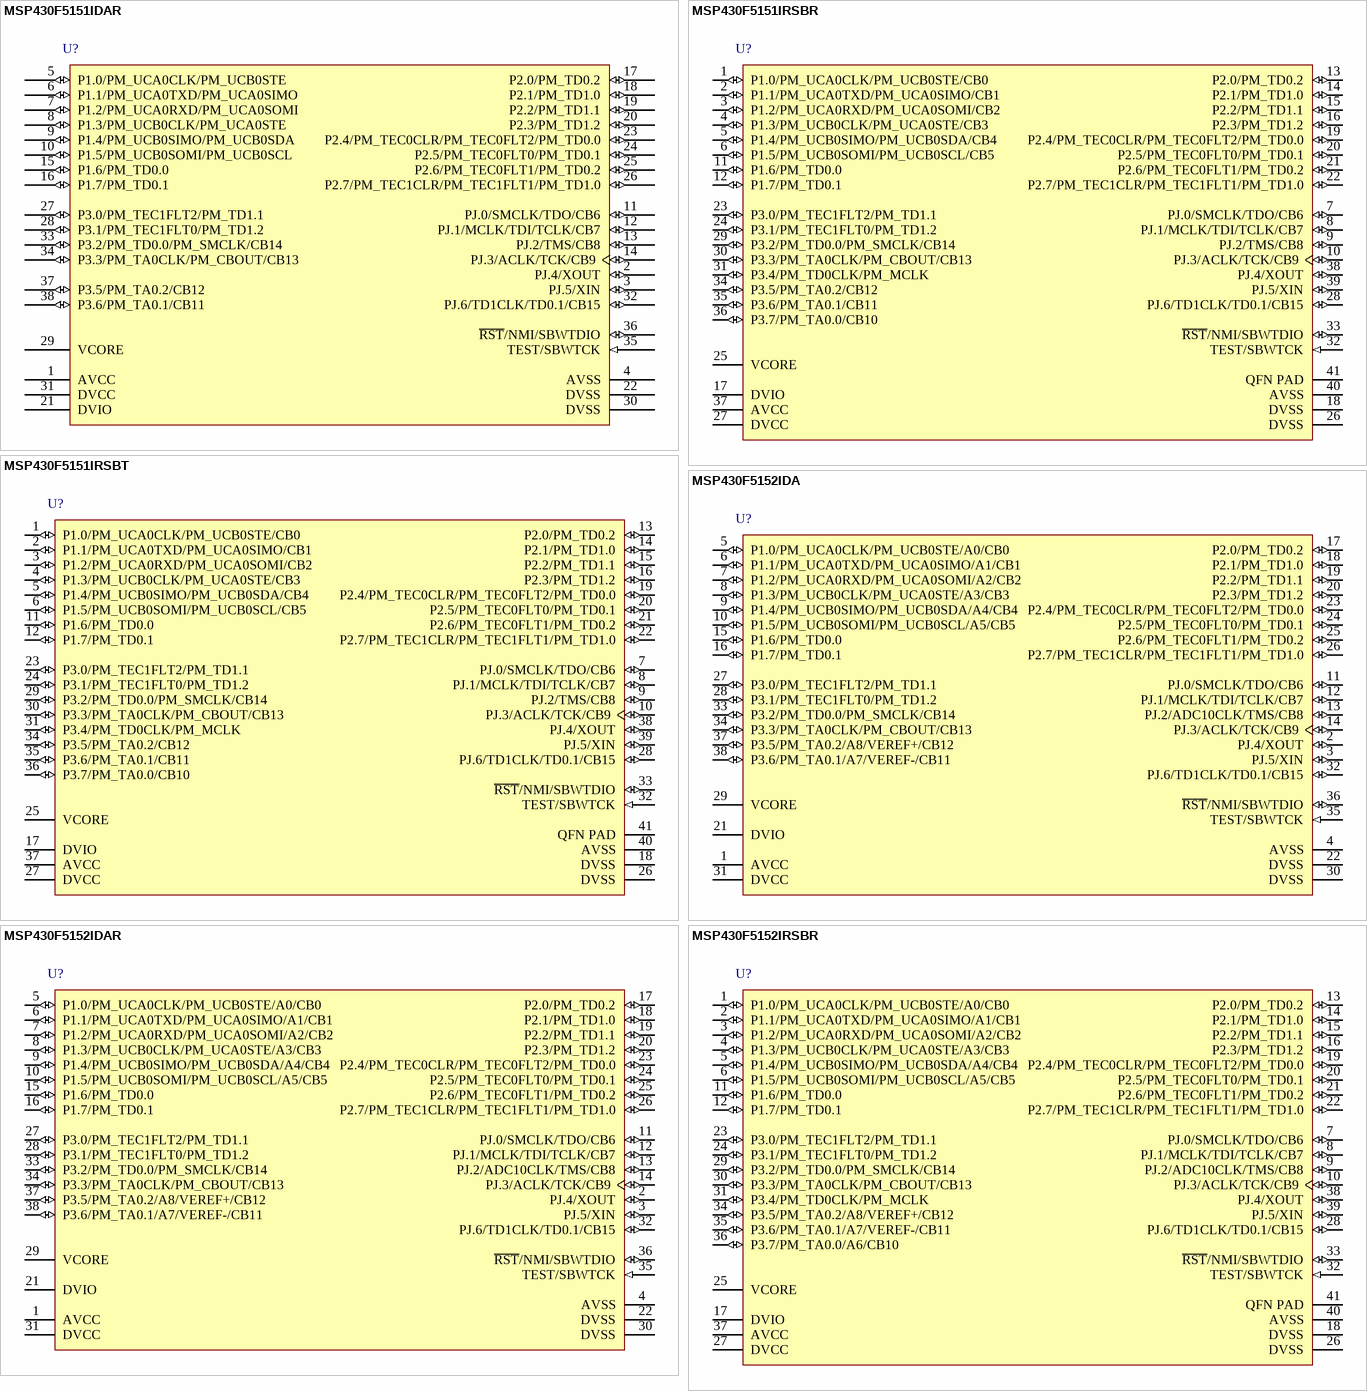
[diagram p91: symbols MSP430F5151IDAR to MSP430F5152IRSBR]